# EAGLE library part NCD57100DWR2G (library NCD57100DWR2G)
High Current Output(+/-7 A) at Miller Plateau Voltages; Short Propagation Delays with Accurate Matching; DESAT with Soft Turn Off; Active Miller Clamp and Negative Gate Voltage; High Transient & Electromagnetic Immunity; 5 kV Galvanic Isolation Source: Datasheet <https://www.onsemi.com/pub/Collateral/NCD57100-D.PDF>
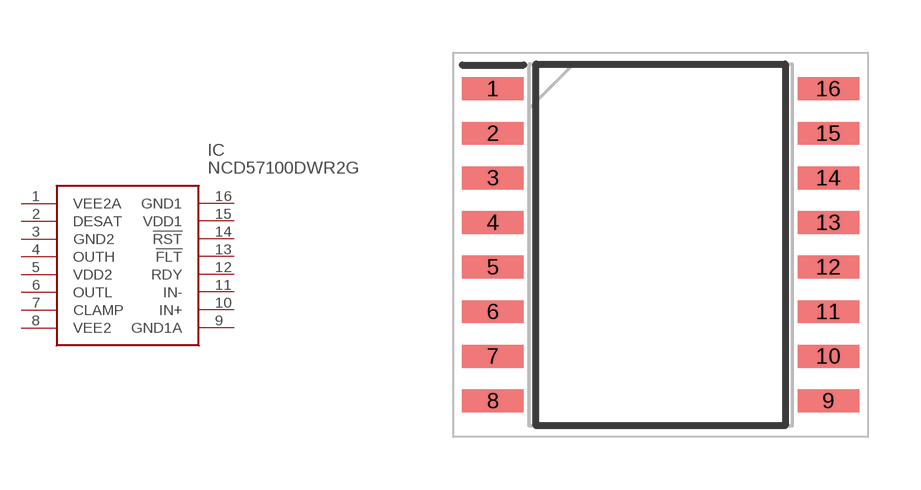
[diagram p0: symbol with the pads of SOIC127P1030X265-16N; footprint SOIC127P1030X265-16N]

Designator prefix IC

## NCD57100DWR2G (Description: High Current Output(+/-7 A) at Miller Plateau Voltages; Short Propagation Delays with Accurate Matching; DESAT with Soft Turn Off; Active Miller Clamp and Negative Gate Voltage; High Transient & Electromagnetic Immunity; 5 kV Galvanic Isolation; Height: 2.65mm; Manufacturer_Name: onsemi; Manufacturer_Part_Number: NCD57100DWR2G; Mouser_Part_Number: 863-NCD57100DWR2G; Mouser_Price-Stock: https://www.mouser.co.uk/ProductDetail/onsemi/NCD57100DWR2G?qs=vvQtp7zwQdOcYrqkXGsoBw%3D%3D)  [SOIC127P1030X265-16N]
1  VEE2A
2  DESAT
3  GND2
4  OUTH
5  VDD2
6  OUTL
7  CLAMP
8  VEE2
9  GND1A
10  IN+
11  IN-
12  RDY
13  !FLT
14  !RST
15  VDD1
16  GND1

## Footprint SOIC127P1030X265-16N (pad centres in mm)
SOIC−16 WBA
smd 1.75 x 0.65: 1 -4.775,4.445; 2 -4.775,3.175; 3 -4.775,1.905; 4 -4.775,0.635; 5 -4.775,-0.635; 6 -4.775,-1.905; 7 -4.775,-3.175; 8 -4.775,-4.445; 9 4.775,-4.445; 10 4.775,-3.175; 11 4.775,-1.905; 12 4.775,-0.635; 13 4.775,0.635; 14 4.775,1.905; 15 4.775,3.175; 16 4.775,4.445